# Altium integrated library Analog Devices RF IF Timing ICs and Clocks.IntLib: 168 symbols (part 1 of 18)
Pins are listed as number, name and electrical type; pins without a type are passive.

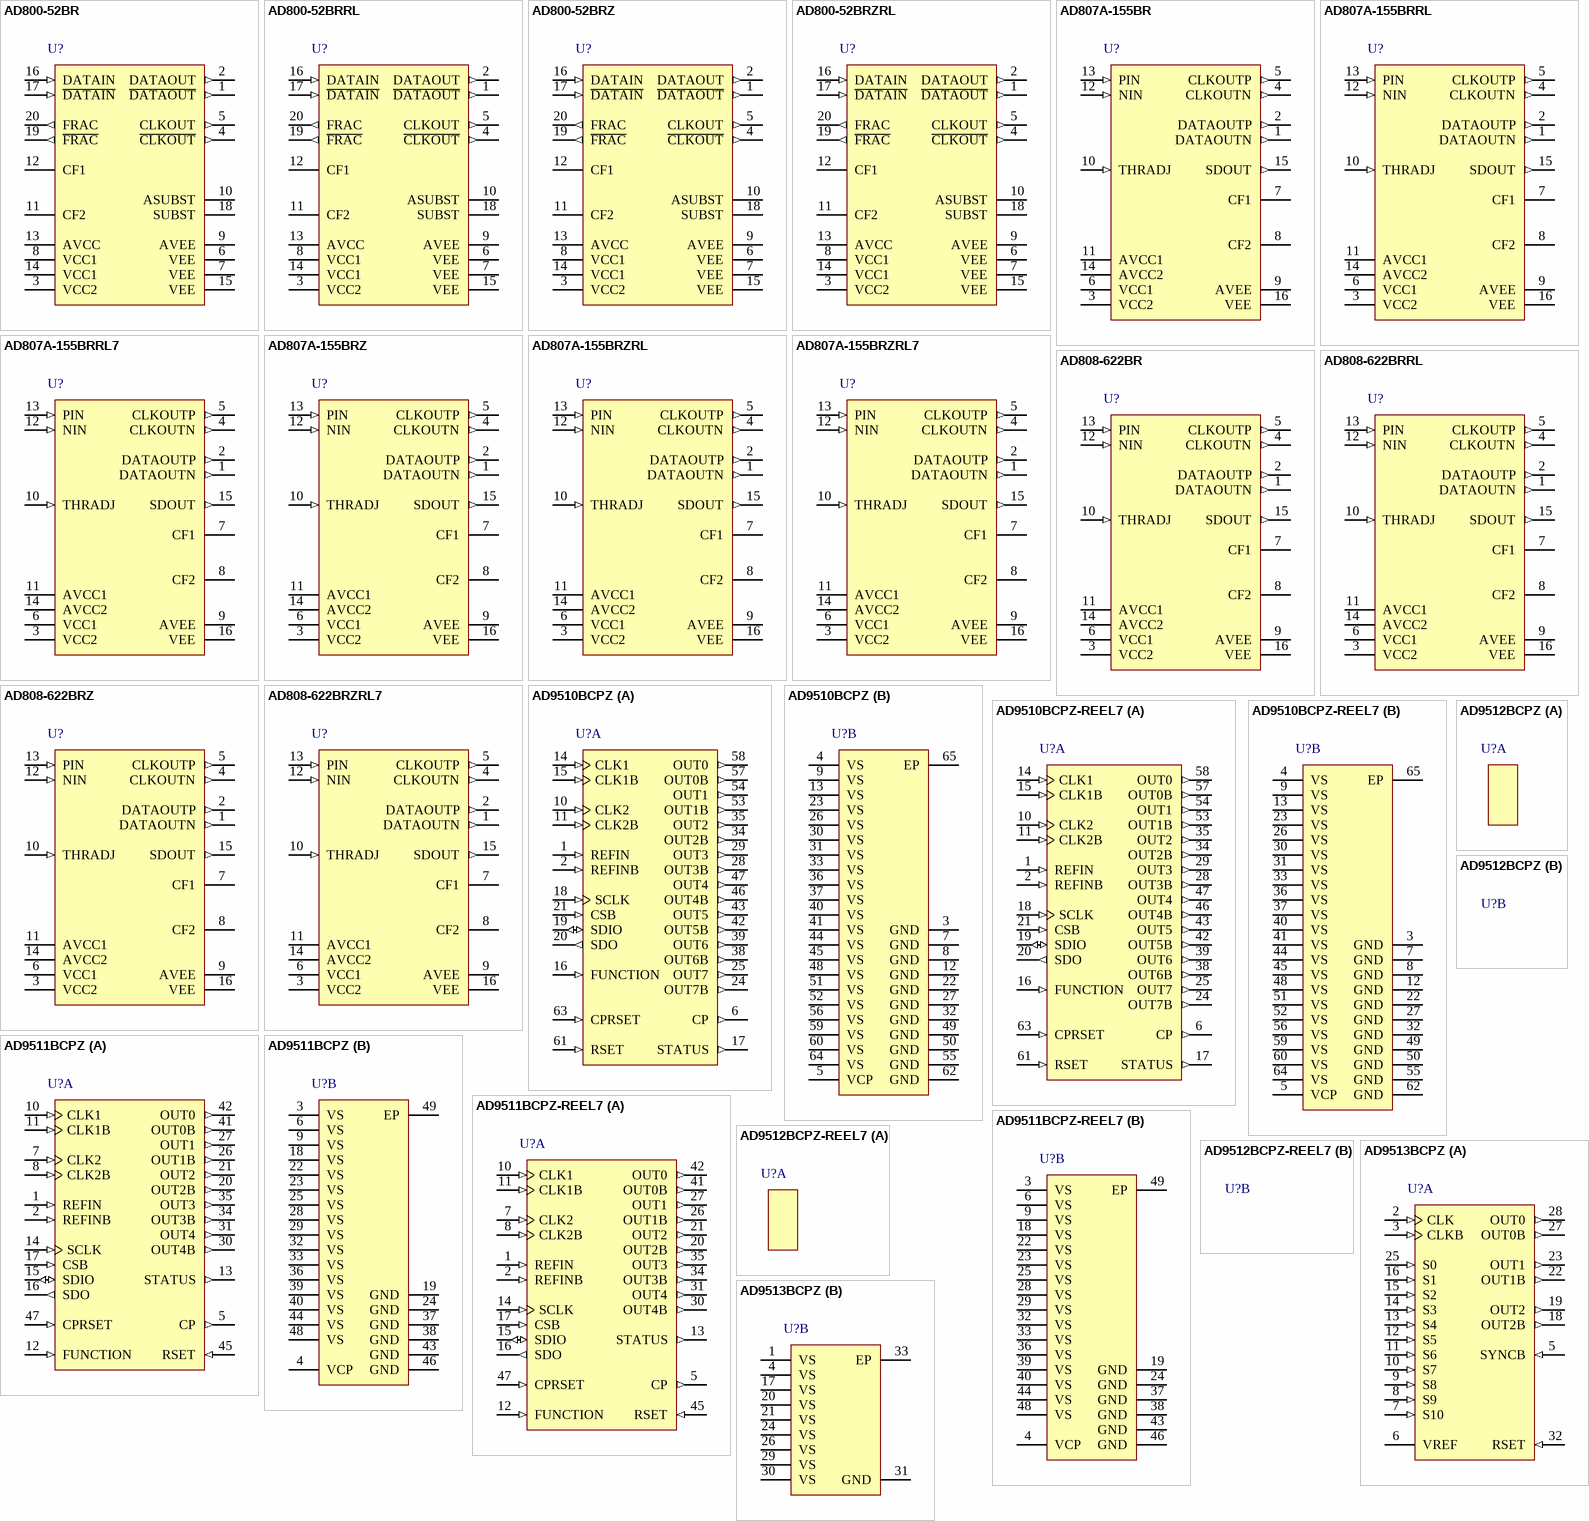
[diagram p0: symbols AD800-52BR to AD9513BCPZ]

## AD800-52BR
designator U?
Clock Recovery and Data Retiming Phase-Locked Loop, 0.156 Gb/s Data Rate, RW-20, 37 Tube; Voltage Supply (V): 5.5; Data Rate (Gb/s): 0.156; Input Sensitivity (mVp-p): 80; Jitter Tolerance (Ulpp): .9 UI @ 65 kHz; DatasheetVersion: Rev. B; PackageVersion: 060706-A; PackageReference: RW-20; PackageDescription: 20-Lead Standard Small Outline Package[SOIC_W]; Code_JEDEC: MS-013-AC; ComponentLink1Description: Manufacturer URL; ComponentLink1URL: www.analog.com; ComponentLink2Description: Datasheet; ComponentLink2URL: http://www.analog.com/static/imported-files/data_sheets/AD800_802.pdf; ComponentLink3Description: Package Specification; ComponentLink3URL: http://www.analog.com/static/imported-files/packages/233848RW_20.pdf
footprint ADI-RW-20_N (SOIC, 20-Leads, Body 12.8x7.5mm, Pitch 1.27mm, IPC Medium Density)
footprint ADI-RW-20_L (SOIC, 20-Leads, Body 12.8x7.5mm, Pitch 1.27mm, IPC High Density)
footprint ADI-RW-20_M (SOIC, 20-Leads, Body 12.8x7.5mm, Pitch 1.27mm, IPC Low Density)
pins: 1 ~{DATAOUT} (out) "Differential Retimed Data Output", 2 DATAOUT (out) "Differential Retimed Data Output", 3 VCC2 (power) "Digital Ground", 4 ~{CLKOUT} (out) "Differential Recovered Clock Output", 5 CLKOUT (out) "Differential Recovered Clock Output", 6 VEE (power) "Digital VEE", 7 VEE (power) "Digital VEE", 8 VCC1 (power) "Digital Ground", 9 AVEE (power) "Analog VEE", 10 ASUBST "Analog Substrate", 11 CF2 "Loop Damping Capacitor Input", 12 CF1 "Loop Damping Capacitor Input", 13 AVCC (power) "Analog Ground", 14 VCC1 (power) "Digital Ground", 15 VEE (power) "Digital VEE", 16 DATAIN (in) "Differential Data Input", 17 ~{DATAIN} (in) "Differential Data Input", 18 SUBST "Digital Substrate", 19 ~{FRAC} (out) "Differential Frequency Acquisition Indicator Output", 20 FRAC (out) "Differential Frequency Acquisition Indicator Output"

## AD800-52BRRL
designator U?
Clock Recovery and Data Retiming Phase-Locked Loop, 0.156 Gb/s Data Rate, RW-20, 1000 Reel; Voltage Supply (V): 5.5; Data Rate (Gb/s): 0.156; Input Sensitivity (mVp-p): 80; Jitter Tolerance (Ulpp): .9 UI @ 65 kHz; DatasheetVersion: Rev. B; PackageVersion: 060706-A; PackageReference: RW-20; PackageDescription: 20-Lead Standard Small Outline Package[SOIC_W]; Code_JEDEC: MS-013-AC; ComponentLink1Description: Manufacturer URL; ComponentLink1URL: www.analog.com; ComponentLink2Description: Datasheet; ComponentLink2URL: http://www.analog.com/static/imported-files/data_sheets/AD800_802.pdf; ComponentLink3Description: Package Specification; ComponentLink3URL: http://www.analog.com/static/imported-files/packages/233848RW_20.pdf
footprint ADI-RW-20_N (SOIC, 20-Leads, Body 12.8x7.5mm, Pitch 1.27mm, IPC Medium Density)
footprint ADI-RW-20_L (SOIC, 20-Leads, Body 12.8x7.5mm, Pitch 1.27mm, IPC High Density)
footprint ADI-RW-20_M (SOIC, 20-Leads, Body 12.8x7.5mm, Pitch 1.27mm, IPC Low Density)
pins: 1 ~{DATAOUT} (out) "Differential Retimed Data Output", 2 DATAOUT (out) "Differential Retimed Data Output", 3 VCC2 (power) "Digital Ground", 4 ~{CLKOUT} (out) "Differential Recovered Clock Output", 5 CLKOUT (out) "Differential Recovered Clock Output", 6 VEE (power) "Digital VEE", 7 VEE (power) "Digital VEE", 8 VCC1 (power) "Digital Ground", 9 AVEE (power) "Analog VEE", 10 ASUBST "Analog Substrate", 11 CF2 "Loop Damping Capacitor Input", 12 CF1 "Loop Damping Capacitor Input", 13 AVCC (power) "Analog Ground", 14 VCC1 (power) "Digital Ground", 15 VEE (power) "Digital VEE", 16 DATAIN (in) "Differential Data Input", 17 ~{DATAIN} (in) "Differential Data Input", 18 SUBST "Digital Substrate", 19 ~{FRAC} (out) "Differential Frequency Acquisition Indicator Output", 20 FRAC (out) "Differential Frequency Acquisition Indicator Output"

## AD800-52BRZ
designator U?
Clock Recovery and Data Retiming Phase-Locked Loop, 0.156 Gb/s Data Rate, RW-20, 37 Tube; Voltage Supply (V): 5.5; Data Rate (Gb/s): 0.156; Input Sensitivity (mVp-p): 80; Jitter Tolerance (Ulpp): .9 UI @ 65 kHz; DatasheetVersion: Rev. B; PackageVersion: 060706-A; PackageReference: RW-20; PackageDescription: 20-Lead Standard Small Outline Package[SOIC_W]; Code_JEDEC: MS-013-AC; ComponentLink1Description: Manufacturer URL; ComponentLink1URL: www.analog.com; ComponentLink2Description: Datasheet; ComponentLink2URL: http://www.analog.com/static/imported-files/data_sheets/AD800_802.pdf; ComponentLink3Description: Package Specification; ComponentLink3URL: http://www.analog.com/static/imported-files/packages/233848RW_20.pdf
footprint ADI-RW-20_N (SOIC, 20-Leads, Body 12.8x7.5mm, Pitch 1.27mm, IPC Medium Density)
footprint ADI-RW-20_L (SOIC, 20-Leads, Body 12.8x7.5mm, Pitch 1.27mm, IPC High Density)
footprint ADI-RW-20_M (SOIC, 20-Leads, Body 12.8x7.5mm, Pitch 1.27mm, IPC Low Density)
pins: 1 ~{DATAOUT} (out) "Differential Retimed Data Output", 2 DATAOUT (out) "Differential Retimed Data Output", 3 VCC2 (power) "Digital Ground", 4 ~{CLKOUT} (out) "Differential Recovered Clock Output", 5 CLKOUT (out) "Differential Recovered Clock Output", 6 VEE (power) "Digital VEE", 7 VEE (power) "Digital VEE", 8 VCC1 (power) "Digital Ground", 9 AVEE (power) "Analog VEE", 10 ASUBST "Analog Substrate", 11 CF2 "Loop Damping Capacitor Input", 12 CF1 "Loop Damping Capacitor Input", 13 AVCC (power) "Analog Ground", 14 VCC1 (power) "Digital Ground", 15 VEE (power) "Digital VEE", 16 DATAIN (in) "Differential Data Input", 17 ~{DATAIN} (in) "Differential Data Input", 18 SUBST "Digital Substrate", 19 ~{FRAC} (out) "Differential Frequency Acquisition Indicator Output", 20 FRAC (out) "Differential Frequency Acquisition Indicator Output"

## AD800-52BRZRL
designator U?
Clock Recovery and Data Retiming Phase-Locked Loop, 0.156 Gb/s Data Rate, RW-20, 1000 Reel; Voltage Supply (V): 5.5; Data Rate (Gb/s): 0.156; Input Sensitivity (mVp-p): 80; Jitter Tolerance (Ulpp): .9 UI @ 65 kHz; DatasheetVersion: Rev. B; PackageVersion: 060706-A; PackageReference: RW-20; PackageDescription: 20-Lead Standard Small Outline Package[SOIC_W]; Code_JEDEC: MS-013-AC; ComponentLink1Description: Manufacturer URL; ComponentLink1URL: www.analog.com; ComponentLink2Description: Datasheet; ComponentLink2URL: http://www.analog.com/static/imported-files/data_sheets/AD800_802.pdf; ComponentLink3Description: Package Specification; ComponentLink3URL: http://www.analog.com/static/imported-files/packages/233848RW_20.pdf
footprint ADI-RW-20_N (SOIC, 20-Leads, Body 12.8x7.5mm, Pitch 1.27mm, IPC Medium Density)
footprint ADI-RW-20_L (SOIC, 20-Leads, Body 12.8x7.5mm, Pitch 1.27mm, IPC High Density)
footprint ADI-RW-20_M (SOIC, 20-Leads, Body 12.8x7.5mm, Pitch 1.27mm, IPC Low Density)
pins: 1 ~{DATAOUT} (out) "Differential Retimed Data Output", 2 DATAOUT (out) "Differential Retimed Data Output", 3 VCC2 (power) "Digital Ground", 4 ~{CLKOUT} (out) "Differential Recovered Clock Output", 5 CLKOUT (out) "Differential Recovered Clock Output", 6 VEE (power) "Digital VEE", 7 VEE (power) "Digital VEE", 8 VCC1 (power) "Digital Ground", 9 AVEE (power) "Analog VEE", 10 ASUBST "Analog Substrate", 11 CF2 "Loop Damping Capacitor Input", 12 CF1 "Loop Damping Capacitor Input", 13 AVCC (power) "Analog Ground", 14 VCC1 (power) "Digital Ground", 15 VEE (power) "Digital VEE", 16 DATAIN (in) "Differential Data Input", 17 ~{DATAIN} (in) "Differential Data Input", 18 SUBST "Digital Substrate", 19 ~{FRAC} (out) "Differential Frequency Acquisition Indicator Output", 20 FRAC (out) "Differential Frequency Acquisition Indicator Output"

## AD807A-155BR
designator U?
Fiber Optic Receiver with Quantizer and Clock Recovery and Data Retiming, 0.155 Gb/s Data Rate, R-16, 48 Tube; Voltage Supply (V): 5; Data Rate (Gb/s): 0.155; Input Sensitivity (mVp-p): 2; Jitter Tolerance (Ulpp): 1.0 @ 65 kHz; Jitter Transfer: 92 kHz; Rate: Single; DatasheetVersion: Rev. B; PackageVersion: 060606-A; PackageReference: R-16; PackageDescription: 16-Lead Standard Small Outline Package [SOIC_N]; Jitter Gen (mUI rms): 5; Code_JEDEC: MS-012-AC; ComponentLink1Description: Manufacturer URL; ComponentLink1URL: www.analog.com; ComponentLink2Description: Datasheet; ComponentLink2URL: http://www.analog.com/static/imported-files/data_sheets/AD807.pdf; ComponentLink3Description: Package Specification; ComponentLink3URL: http://www.analog.com/static/imported-files/packages/PKG_PDF/SOIC_Narrow%20(R)/R_16.pdf
footprint ADI-R-16_N (SOIC, 16-Leads, Body 9.9x3.9mm, Pitch 1.27mm, IPC Medium Density)
footprint ADI-R-16_L (SOIC, 16-Leads, Body 9.9x3.9mm, Pitch 1.27mm, IPC High Density)
footprint ADI-R-16_M (SOIC, 16-Leads, Body 9.9x3.9mm, Pitch 1.27mm, IPC Low Density)
pins: 1 DATAOUTN (out) "Differential Retimed Data Output", 2 DATAOUTP (out) "Differential Retimed Data Output", 3 VCC2 (power) "Digital VCC for ECL Outputs", 4 CLKOUTN (out) "Differential Recovered Clock Output", 5 CLKOUTP (out) "Differential Recovered Clock Output", 6 VCC1 (power) "Digital VCC for Internal Logic", 7 CF1 "Loop Damping Capacitor", 8 CF2 "Loop Damping Capacitor", 9 AVEE (power) "Analog VEE", 10 THRADJ (in) "Level Detect Threshold Adjust", 11 AVCC1 (power) "Analog VCC for PLL", 12 NIN (in) "Quantizer Differential Input", 13 PIN (in) "Quantizer Differential Input", 14 AVCC2 (power) "Analog VCC for Quantizer", 15 SDOUT (out) "Signal Detect Output", 16 VEE (power) "Digital VEE for Internal Logic"

## AD807A-155BRRL
designator U?
Fiber Optic Receiver with Quantizer and Clock Recovery and Data Retiming, 0.155 Gb/s Data Rate, R-16, 2500 Reel; Voltage Supply (V): 5; Data Rate (Gb/s): 0.155; Input Sensitivity (mVp-p): 2; Jitter Tolerance (Ulpp): 1.0 @ 65 kHz; Jitter Transfer: 92 kHz; Rate: Single; DatasheetVersion: Rev. B; PackageVersion: 060606-A; PackageReference: R-16; PackageDescription: 16-Lead Standard Small Outline Package [SOIC_N]; Jitter Gen (mUI rms): 5; Code_JEDEC: MS-012-AC; ComponentLink1Description: Manufacturer URL; ComponentLink1URL: www.analog.com; ComponentLink2Description: Datasheet; ComponentLink2URL: http://www.analog.com/static/imported-files/data_sheets/AD807.pdf; ComponentLink3Description: Package Specification; ComponentLink3URL: http://www.analog.com/static/imported-files/packages/PKG_PDF/SOIC_Narrow%20(R)/R_16.pdf
footprint ADI-R-16_N (SOIC, 16-Leads, Body 9.9x3.9mm, Pitch 1.27mm, IPC Medium Density)
footprint ADI-R-16_L (SOIC, 16-Leads, Body 9.9x3.9mm, Pitch 1.27mm, IPC High Density)
footprint ADI-R-16_M (SOIC, 16-Leads, Body 9.9x3.9mm, Pitch 1.27mm, IPC Low Density)
pins: 1 DATAOUTN (out) "Differential Retimed Data Output", 2 DATAOUTP (out) "Differential Retimed Data Output", 3 VCC2 (power) "Digital VCC for ECL Outputs", 4 CLKOUTN (out) "Differential Recovered Clock Output", 5 CLKOUTP (out) "Differential Recovered Clock Output", 6 VCC1 (power) "Digital VCC for Internal Logic", 7 CF1 "Loop Damping Capacitor", 8 CF2 "Loop Damping Capacitor", 9 AVEE (power) "Analog VEE", 10 THRADJ (in) "Level Detect Threshold Adjust", 11 AVCC1 (power) "Analog VCC for PLL", 12 NIN (in) "Quantizer Differential Input", 13 PIN (in) "Quantizer Differential Input", 14 AVCC2 (power) "Analog VCC for Quantizer", 15 SDOUT (out) "Signal Detect Output", 16 VEE (power) "Digital VEE for Internal Logic"

## AD807A-155BRRL7
designator U?
Fiber Optic Receiver with Quantizer and Clock Recovery and Data Retiming, 0.155 Gb/s Data Rate, R-16, 1000 Reel; Voltage Supply (V): 5; Data Rate (Gb/s): 0.155; Input Sensitivity (mVp-p): 2; Jitter Tolerance (Ulpp): 1.0 @ 65 kHz; Jitter Transfer: 92 kHz; Rate: Single; DatasheetVersion: Rev. B; PackageVersion: 060606-A; PackageReference: R-16; PackageDescription: 16-Lead Standard Small Outline Package [SOIC_N]; Jitter Gen (mUI rms): 5; Code_JEDEC: MS-012-AC; ComponentLink1Description: Manufacturer URL; ComponentLink1URL: www.analog.com; ComponentLink2Description: Datasheet; ComponentLink2URL: http://www.analog.com/static/imported-files/data_sheets/AD807.pdf; ComponentLink3Description: Package Specification; ComponentLink3URL: http://www.analog.com/static/imported-files/packages/PKG_PDF/SOIC_Narrow%20(R)/R_16.pdf
footprint ADI-R-16_N (SOIC, 16-Leads, Body 9.9x3.9mm, Pitch 1.27mm, IPC Medium Density)
footprint ADI-R-16_L (SOIC, 16-Leads, Body 9.9x3.9mm, Pitch 1.27mm, IPC High Density)
footprint ADI-R-16_M (SOIC, 16-Leads, Body 9.9x3.9mm, Pitch 1.27mm, IPC Low Density)
pins: 1 DATAOUTN (out) "Differential Retimed Data Output", 2 DATAOUTP (out) "Differential Retimed Data Output", 3 VCC2 (power) "Digital VCC for ECL Outputs", 4 CLKOUTN (out) "Differential Recovered Clock Output", 5 CLKOUTP (out) "Differential Recovered Clock Output", 6 VCC1 (power) "Digital VCC for Internal Logic", 7 CF1 "Loop Damping Capacitor", 8 CF2 "Loop Damping Capacitor", 9 AVEE (power) "Analog VEE", 10 THRADJ (in) "Level Detect Threshold Adjust", 11 AVCC1 (power) "Analog VCC for PLL", 12 NIN (in) "Quantizer Differential Input", 13 PIN (in) "Quantizer Differential Input", 14 AVCC2 (power) "Analog VCC for Quantizer", 15 SDOUT (out) "Signal Detect Output", 16 VEE (power) "Digital VEE for Internal Logic"

## AD807A-155BRZ
designator U?
Fiber Optic Receiver with Quantizer and Clock Recovery and Data Retiming, 0.155 Gb/s Data Rate, R-16, 48 Tube; Voltage Supply (V): 5; Data Rate (Gb/s): 0.155; Input Sensitivity (mVp-p): 2; Jitter Tolerance (Ulpp): 1.0 @ 65 kHz; Jitter Transfer: 92 kHz; Rate: Single; DatasheetVersion: Rev. B; PackageVersion: 060606-A; PackageReference: R-16; PackageDescription: 16-Lead Standard Small Outline Package [SOIC_N]; Jitter Gen (mUI rms): 5; Code_JEDEC: MS-012-AC; ComponentLink1Description: Manufacturer URL; ComponentLink1URL: www.analog.com; ComponentLink2Description: Datasheet; ComponentLink2URL: http://www.analog.com/static/imported-files/data_sheets/AD807.pdf; ComponentLink3Description: Package Specification; ComponentLink3URL: http://www.analog.com/static/imported-files/packages/PKG_PDF/SOIC_Narrow%20(R)/R_16.pdf
footprint ADI-R-16_N (SOIC, 16-Leads, Body 9.9x3.9mm, Pitch 1.27mm, IPC Medium Density)
footprint ADI-R-16_L (SOIC, 16-Leads, Body 9.9x3.9mm, Pitch 1.27mm, IPC High Density)
footprint ADI-R-16_M (SOIC, 16-Leads, Body 9.9x3.9mm, Pitch 1.27mm, IPC Low Density)
pins: 1 DATAOUTN (out) "Differential Retimed Data Output", 2 DATAOUTP (out) "Differential Retimed Data Output", 3 VCC2 (power) "Digital VCC for ECL Outputs", 4 CLKOUTN (out) "Differential Recovered Clock Output", 5 CLKOUTP (out) "Differential Recovered Clock Output", 6 VCC1 (power) "Digital VCC for Internal Logic", 7 CF1 "Loop Damping Capacitor", 8 CF2 "Loop Damping Capacitor", 9 AVEE (power) "Analog VEE", 10 THRADJ (in) "Level Detect Threshold Adjust", 11 AVCC1 (power) "Analog VCC for PLL", 12 NIN (in) "Quantizer Differential Input", 13 PIN (in) "Quantizer Differential Input", 14 AVCC2 (power) "Analog VCC for Quantizer", 15 SDOUT (out) "Signal Detect Output", 16 VEE (power) "Digital VEE for Internal Logic"

## AD807A-155BRZRL
designator U?
Fiber Optic Receiver with Quantizer and Clock Recovery and Data Retiming, 0.155 Gb/s Data Rate, R-16, 2500 Reel; Voltage Supply (V): 5; Data Rate (Gb/s): 0.155; Input Sensitivity (mVp-p): 2; Jitter Tolerance (Ulpp): 1.0 @ 65 kHz; Jitter Transfer: 92 kHz; Rate: Single; DatasheetVersion: Rev. B; PackageVersion: 060606-A; PackageReference: R-16; PackageDescription: 16-Lead Standard Small Outline Package [SOIC_N]; Jitter Gen (mUI rms): 5; Code_JEDEC: MS-012-AC; ComponentLink1Description: Manufacturer URL; ComponentLink1URL: www.analog.com; ComponentLink2Description: Datasheet; ComponentLink2URL: http://www.analog.com/static/imported-files/data_sheets/AD807.pdf; ComponentLink3Description: Package Specification; ComponentLink3URL: http://www.analog.com/static/imported-files/packages/PKG_PDF/SOIC_Narrow%20(R)/R_16.pdf
footprint ADI-R-16_N (SOIC, 16-Leads, Body 9.9x3.9mm, Pitch 1.27mm, IPC Medium Density)
footprint ADI-R-16_L (SOIC, 16-Leads, Body 9.9x3.9mm, Pitch 1.27mm, IPC High Density)
footprint ADI-R-16_M (SOIC, 16-Leads, Body 9.9x3.9mm, Pitch 1.27mm, IPC Low Density)
pins: 1 DATAOUTN (out) "Differential Retimed Data Output", 2 DATAOUTP (out) "Differential Retimed Data Output", 3 VCC2 (power) "Digital VCC for ECL Outputs", 4 CLKOUTN (out) "Differential Recovered Clock Output", 5 CLKOUTP (out) "Differential Recovered Clock Output", 6 VCC1 (power) "Digital VCC for Internal Logic", 7 CF1 "Loop Damping Capacitor", 8 CF2 "Loop Damping Capacitor", 9 AVEE (power) "Analog VEE", 10 THRADJ (in) "Level Detect Threshold Adjust", 11 AVCC1 (power) "Analog VCC for PLL", 12 NIN (in) "Quantizer Differential Input", 13 PIN (in) "Quantizer Differential Input", 14 AVCC2 (power) "Analog VCC for Quantizer", 15 SDOUT (out) "Signal Detect Output", 16 VEE (power) "Digital VEE for Internal Logic"

## AD807A-155BRZRL7
designator U?
Fiber Optic Receiver with Quantizer and Clock Recovery and Data Retiming, 0.155 Gb/s Data Rate, R-16, 1000 Reel; Voltage Supply (V): 5; Data Rate (Gb/s): 0.155; Input Sensitivity (mVp-p): 2; Jitter Tolerance (Ulpp): 1.0 @ 65 kHz; Jitter Transfer: 92 kHz; Rate: Single; DatasheetVersion: Rev. B; PackageVersion: 060606-A; PackageReference: R-16; PackageDescription: 16-Lead Standard Small Outline Package [SOIC_N]; Jitter Gen (mUI rms): 5; Code_JEDEC: MS-012-AC; ComponentLink1Description: Manufacturer URL; ComponentLink1URL: www.analog.com; ComponentLink2Description: Datasheet; ComponentLink2URL: http://www.analog.com/static/imported-files/data_sheets/AD807.pdf; ComponentLink3Description: Package Specification; ComponentLink3URL: http://www.analog.com/static/imported-files/packages/PKG_PDF/SOIC_Narrow%20(R)/R_16.pdf
footprint ADI-R-16_N (SOIC, 16-Leads, Body 9.9x3.9mm, Pitch 1.27mm, IPC Medium Density)
footprint ADI-R-16_L (SOIC, 16-Leads, Body 9.9x3.9mm, Pitch 1.27mm, IPC High Density)
footprint ADI-R-16_M (SOIC, 16-Leads, Body 9.9x3.9mm, Pitch 1.27mm, IPC Low Density)
pins: 1 DATAOUTN (out) "Differential Retimed Data Output", 2 DATAOUTP (out) "Differential Retimed Data Output", 3 VCC2 (power) "Digital VCC for ECL Outputs", 4 CLKOUTN (out) "Differential Recovered Clock Output", 5 CLKOUTP (out) "Differential Recovered Clock Output", 6 VCC1 (power) "Digital VCC for Internal Logic", 7 CF1 "Loop Damping Capacitor", 8 CF2 "Loop Damping Capacitor", 9 AVEE (power) "Analog VEE", 10 THRADJ (in) "Level Detect Threshold Adjust", 11 AVCC1 (power) "Analog VCC for PLL", 12 NIN (in) "Quantizer Differential Input", 13 PIN (in) "Quantizer Differential Input", 14 AVCC2 (power) "Analog VCC for Quantizer", 15 SDOUT (out) "Signal Detect Output", 16 VEE (power) "Digital VEE for Internal Logic"

## AD808-622BR
designator U?
Fiber Optic Receiver with Quantizer andClock Recovery and Data Retiming, 0.622 Gb/s Data Rate, R-16, 48 Tube; Voltage Supply (V): 5; Data Rate (Gb/s): 0.622; Input Sensitivity (mVp-p): 4; Jitter Tolerance (Ulpp): 0.6 @ 250 kHz; Jitter Transfer: 333 kHz; Jitter Gen (mUI rms): 7; Rate: Single; DatasheetVersion: Rev. 0; PackageVersion: 060606-A; PackageReference: R-16; PackageDescription: 16-Lead Standard Small Outline Package [SOIC_N]; Code_JEDEC: MS-012-AC; ComponentLink1Description: Manufacturer URL; ComponentLink1URL: www.analog.com; ComponentLink2Description: Datasheet; ComponentLink2URL: http://www.analog.com/static/imported-files/data_sheets/AD808.pdf; ComponentLink3Description: Package Specification; ComponentLink3URL: http://www.analog.com/static/imported-files/packages/PKG_PDF/SOIC_Narrow%20(R)/R_16.pdf
footprint ADI-R-16_N (SOIC, 16-Leads, Body 9.9x3.9mm, Pitch 1.27mm, IPC Medium Density)
footprint ADI-R-16_L (SOIC, 16-Leads, Body 9.9x3.9mm, Pitch 1.27mm, IPC High Density)
footprint ADI-R-16_M (SOIC, 16-Leads, Body 9.9x3.9mm, Pitch 1.27mm, IPC Low Density)
pins: 1 DATAOUTN (out) "Differential Retimed Data Output", 2 DATAOUTP (out) "Differential Retimed Data Output", 3 VCC2 (power) "Digital VCC for ECL Outputs", 4 CLKOUTN (out) "Differential Recovered Clock Output", 5 CLKOUTP (out) "Differential Recovered Clock Output", 6 VCC1 (power) "Digital VCC for Internal Logic", 7 CF1 "Loop Damping Capacitor", 8 CF2 "Loop Damping Capacitor", 9 AVEE (power) "Analog VEE", 10 THRADJ (in) "Level Detect Threshold Adjust", 11 AVCC1 (power) "Analog VCC for PLL", 12 NIN (in) "Quantizer Differential Input", 13 PIN (in) "Quantizer Differential Input", 14 AVCC2 (power) "Analog VCC for Quantizer", 15 SDOUT (out) "Signal Detect Output", 16 VEE (power) "Digital VEE for Internal Logic"

## AD808-622BRRL
designator U?
Fiber Optic Receiver with Quantizer and Clock Recovery and Data Retiming, 0.622 Gb/s Data Rate, R-16, 2500 Reel; Voltage Supply (V): 5; Data Rate (Gb/s): 0.622; Input Sensitivity (mVp-p): 4; Jitter Tolerance (Ulpp): 0.6 @ 250 kHz; Jitter Transfer: 333 kHz; Jitter Gen (mUI rms): 7; Rate: Single; DatasheetVersion: Rev. 0; PackageVersion: 060606-A; PackageReference: R-16; PackageDescription: 16-Lead Standard Small Outline Package [SOIC_N]; Code_JEDEC: MS-012-AC; ComponentLink1Description: Manufacturer URL; ComponentLink1URL: www.analog.com; ComponentLink2Description: Datasheet; ComponentLink2URL: http://www.analog.com/static/imported-files/data_sheets/AD808.pdf; ComponentLink3Description: Package Specification; ComponentLink3URL: http://www.analog.com/static/imported-files/packages/PKG_PDF/SOIC_Narrow%20(R)/R_16.pdf
footprint ADI-R-16_N (SOIC, 16-Leads, Body 9.9x3.9mm, Pitch 1.27mm, IPC Medium Density)
footprint ADI-R-16_L (SOIC, 16-Leads, Body 9.9x3.9mm, Pitch 1.27mm, IPC High Density)
footprint ADI-R-16_M (SOIC, 16-Leads, Body 9.9x3.9mm, Pitch 1.27mm, IPC Low Density)
pins: 1 DATAOUTN (out) "Differential Retimed Data Output", 2 DATAOUTP (out) "Differential Retimed Data Output", 3 VCC2 (power) "Digital VCC for ECL Outputs", 4 CLKOUTN (out) "Differential Recovered Clock Output", 5 CLKOUTP (out) "Differential Recovered Clock Output", 6 VCC1 (power) "Digital VCC for Internal Logic", 7 CF1 "Loop Damping Capacitor", 8 CF2 "Loop Damping Capacitor", 9 AVEE (power) "Analog VEE", 10 THRADJ (in) "Level Detect Threshold Adjust", 11 AVCC1 (power) "Analog VCC for PLL", 12 NIN (in) "Quantizer Differential Input", 13 PIN (in) "Quantizer Differential Input", 14 AVCC2 (power) "Analog VCC for Quantizer", 15 SDOUT (out) "Signal Detect Output", 16 VEE (power) "Digital VEE for Internal Logic"

## AD808-622BRZ
designator U?
Fiber Optic Receiver with Quantizer and Clock Recovery and Data Retiming, 0.622 Gb/s Data Rate, R-16, 48 Tube; Voltage Supply (V): 5; Data Rate (Gb/s): 0.622; Input Sensitivity (mVp-p): 4; Jitter Tolerance (Ulpp): 0.6 @ 250 kHz; Jitter Transfer: 333 kHz; Jitter Gen (mUI rms): 7; Rate: Single; DatasheetVersion: Rev. 0; PackageVersion: 060606-A; PackageReference: R-16; PackageDescription: 16-Lead Standard Small Outline Package [SOIC_N]; Code_JEDEC: MS-012-AC; ComponentLink1Description: Manufacturer URL; ComponentLink1URL: www.analog.com; ComponentLink2Description: Datasheet; ComponentLink2URL: http://www.analog.com/static/imported-files/data_sheets/AD808.pdf; ComponentLink3Description: Package Specification; ComponentLink3URL: http://www.analog.com/static/imported-files/packages/PKG_PDF/SOIC_Narrow%20(R)/R_16.pdf
footprint ADI-R-16_N (SOIC, 16-Leads, Body 9.9x3.9mm, Pitch 1.27mm, IPC Medium Density)
footprint ADI-R-16_L (SOIC, 16-Leads, Body 9.9x3.9mm, Pitch 1.27mm, IPC High Density)
footprint ADI-R-16_M (SOIC, 16-Leads, Body 9.9x3.9mm, Pitch 1.27mm, IPC Low Density)
pins: 1 DATAOUTN (out) "Differential Retimed Data Output", 2 DATAOUTP (out) "Differential Retimed Data Output", 3 VCC2 (power) "Digital VCC for ECL Outputs", 4 CLKOUTN (out) "Differential Recovered Clock Output", 5 CLKOUTP (out) "Differential Recovered Clock Output", 6 VCC1 (power) "Digital VCC for Internal Logic", 7 CF1 "Loop Damping Capacitor", 8 CF2 "Loop Damping Capacitor", 9 AVEE (power) "Analog VEE", 10 THRADJ (in) "Level Detect Threshold Adjust", 11 AVCC1 (power) "Analog VCC for PLL", 12 NIN (in) "Quantizer Differential Input", 13 PIN (in) "Quantizer Differential Input", 14 AVCC2 (power) "Analog VCC for Quantizer", 15 SDOUT (out) "Signal Detect Output", 16 VEE (power) "Digital VEE for Internal Logic"

## AD808-622BRZRL7
designator U?
Fiber Optic Receiver with Quantizer and Clock Recovery and Data Retiming, 0.622 Gb/s Data Rate, R-16, 1000 Reel; Voltage Supply (V): 5; Data Rate (Gb/s): 0.622; Input Sensitivity (mVp-p): 4; Jitter Tolerance (Ulpp): 0.6 @ 250 kHz; Jitter Transfer: 333 kHz; Jitter Gen (mUI rms): 7; Rate: Single; DatasheetVersion: Rev. 0; PackageVersion: 060606-A; PackageReference: R-16; PackageDescription: 16-Lead Standard Small Outline Package [SOIC_N]; Code_JEDEC: MS-012-AC; ComponentLink1Description: Manufacturer URL; ComponentLink1URL: www.analog.com; ComponentLink2Description: Datasheet; ComponentLink2URL: http://www.analog.com/static/imported-files/data_sheets/AD808.pdf; ComponentLink3Description: Package Specification; ComponentLink3URL: http://www.analog.com/static/imported-files/packages/PKG_PDF/SOIC_Narrow%20(R)/R_16.pdf
footprint ADI-R-16_N (SOIC, 16-Leads, Body 9.9x3.9mm, Pitch 1.27mm, IPC Medium Density)
footprint ADI-R-16_L (SOIC, 16-Leads, Body 9.9x3.9mm, Pitch 1.27mm, IPC High Density)
footprint ADI-R-16_M (SOIC, 16-Leads, Body 9.9x3.9mm, Pitch 1.27mm, IPC Low Density)
pins: 1 DATAOUTN (out) "Differential Retimed Data Output", 2 DATAOUTP (out) "Differential Retimed Data Output", 3 VCC2 (power) "Digital VCC for ECL Outputs", 4 CLKOUTN (out) "Differential Recovered Clock Output", 5 CLKOUTP (out) "Differential Recovered Clock Output", 6 VCC1 (power) "Digital VCC for Internal Logic", 7 CF1 "Loop Damping Capacitor", 8 CF2 "Loop Damping Capacitor", 9 AVEE (power) "Analog VEE", 10 THRADJ (in) "Level Detect Threshold Adjust", 11 AVCC1 (power) "Analog VCC for PLL", 12 NIN (in) "Quantizer Differential Input", 13 PIN (in) "Quantizer Differential Input", 14 AVCC2 (power) "Analog VCC for Quantizer", 15 SDOUT (out) "Signal Detect Output", 16 VEE (power) "Digital VEE for Internal Logic"

## AD9510BCPZ
designator U?
1.2 GHz Clock Distribution IC, PLL Core, Dividers, Delay Adjust, Eight Outputs, 1200 MHz Max f-out, CP-64-1, Pb-Free, 260 Tray; Product Description: Multi-Output Clock Generator; +Supply Voltage (V): 3.3; Inputs: 1; Outputs: 8; On-Chip VCO or DCO: No; Max f-out (MHz): 1200; Output Logic: CMOS; LVDS; LVPECL; DatasheetVersion: Rev. A; PackageVersion: 063006-B; PackageReference: CP-64-1; PackageDescription: 64-Lead Lead Frame Chip Scale Package [LFCSP_VQ]; Dividers: 8; Code_JEDEC: MO-220-VMMD-4; ComponentLink1Description: Manufacturer URL; ComponentLink1URL: www.analog.com; ComponentLink2Description: Datasheet; ComponentLink2URL: http://www.analog.com/static/imported-files/data_sheets/AD9510.pdf; ComponentLink3Description: Package Specification; ComponentLink3URL: http://www.analog.com/static/imported-files/packages/PKG_PDF/LFCSP(CP)/CP-64/CP_64_1.pdf
footprint ADI-CP-64-1_N (QFN, 64-Leads, Body 9x9mm, Pitch 0.5mm, Thermal Pad 4.7x4.7mm, IPC Medium Density)
footprint ADI-CP-64-1_L (QFN, 64-Leads, Body 9x9mm, Pitch 0.5mm, Thermal Pad 4.7x4.7mm, IPC High Density)
footprint ADI-CP-64-1_M (QFN, 64-Leads, Body 9x9mm, Pitch 0.5mm, Thermal Pad 4.7x4.7mm, IPC Low Density)
part A pins: 1 REFIN (in) "PLL Reference Input.", 2 REFINB (in) "Complementary PLL Reference Input.", 6 CP (out) "Charge Pump Output.", 10 CLK2 (in) "Clock Input Used to Connect External VCO/VCXO to Feedback Divider, N. CLK2 also drives the distribution section of the chip and may be used as a generic clock input when PLL is not used.", 11 CLK2B (in) "Complementary Clock Input Used in Conjunction with CLK2.", 14 CLK1 (in) "Clock Input that Drives Distribution Section of the Chip.", 15 CLK1B (in) "Complementary Clock Input Used in Conjunction with CLK1.", 16 FUNCTION (in) "Multipurpose Input May Be Programmed as a Reset (RESETB), Sync (SYNCB), or Power-Down (PDB) Pin.This pin is internally pulled down by a 30 K ohm resistor. [see datasheet]", 17 STATUS (out) "Output Used to Monitor PLL Status and Sync Status", 18 SCLK (in) "Serial Data Clock", 19 SDIO (io) "Serial Data I/O.", 20 SDO (out) "Serial Data Output.", 21 CSB (in) "Serial Port Chip Select", 24 OUT7B (out) "Complementary LVDS/Inverted CMOS Output.", 25 OUT7 (out) "LVDS/CMOS Output.", 28 OUT3B (out) "Complementary LVPECL Output.", 29 OUT3 (out) "LVPECL Output.", 34 OUT2B (out) "Complementary LVPECL Output.", 35 OUT2 (out) "LVPECL Output", 38 OUT6B (out) "Complementary LVDS/Inverted CMOS Output. OUT6 includes a delay block.", 39 OUT6 (out) "LVDS/CMOS Output. OUT6 includes a delay block.", 42 OUT5B (out) "Output", 43 OUT5 (out) "LVDS/CMOS Output. OUT5 includes a delay block.", 46 OUT4B (out) "Complementary LVDS/Inverted CMOS Output.", 47 OUT4 (out) "LVDS/CMOS Output.", 53 OUT1B (out) "Complementary LVPECL Output.", 54 OUT1 (out) "LVPECL Output.", 57 OUT0B (out) "Complementary LVPECL Output.", 58 OUT0 (out) "LVPECL Output.", 61 RSET (in) "Current Set Resistor to Ground. Nominal value = 4.12 K ohm.", 63 CPRSET (in) "Charge Pump Current Set Resistor to Ground. Nominal value = 5.1 K ohm."
part B pins: 3 GND (power) "Ground.", 4 VS (power) "Power Supply (3.3 V) VS.", 5 VCP (power) "Charge Pump Power Supply VCPS. It should be greater than or equal to VS. VCPS may be set as high as 5.5 V  for VCOs requiring extended tuning range.", 7 GND (power) "Ground.", 8 GND (power) "Ground.", 9 VS (power) "Power Supply (3.3 V) V", 12 GND (power) "Ground.", 13 VS (power) "Power Supply (3.3 V) V", 22 GND (power) "Ground.", 23 VS (power) "Power Supply (3.3 V) V", 26 VS (power) "Power Supply (3.3 V) V", 27 GND (power) "Ground.", 30 VS (power) "Power Supply (3.3 V) V", 31 VS (power) "Power Supply (3.3 V) V", 32 GND (power) "Ground.", 33 VS (power) "Power Supply (3.3 V) V", 36 VS (power) "Power Supply (3.3 V) V", 37 VS (power) "Power Supply (3.3 V) V", 40 VS (power) "Power Supply (3.3 V) V", 41 VS (power) "Power Supply (3.3 V) V", 44 VS (power) "Power Supply (3.3 V) V", 45 VS (power) "Power Supply (3.3 V) V", 48 VS (power) "Power Supply (3.3 V) V", 49 GND (power) "Ground.", 50 GND (power) "Ground.", 51 VS (power) "Power Supply (3.3 V) V", 52 VS (power) "Power Supply (3.3 V) V", 55 GND (power) "Ground.", 56 VS (power) "Power Supply (3.3 V) V", 59 VS (power) "Power Supply (3.3 V) V", 60 VS (power) "Power Supply (3.3 V) V", 62 GND (power) "Ground.", 64 VS (power) "Power Supply (3.3 V) V", 65 EP (power) "Exposed Pad"

## AD9510BCPZ-REEL7
designator U?
1.2 GHz Clock Distribution IC, PLL Core, Dividers, Delay Adjust, Eight Outputs, 1200 MHz Max f-out, CP-64-1, Pb-Free, 750 Reel; Product Description: Multi-Output Clock Generator; +Supply Voltage (V): 3.3; Inputs: 1; Outputs: 8; On-Chip VCO or DCO: No; Max f-out (MHz): 1200; Output Logic: CMOS; LVDS; LVPECL; DatasheetVersion: Rev. A; PackageVersion: 063006-B; PackageReference: CP-64-1; PackageDescription: 64-Lead Lead Frame Chip Scale Package [LFCSP_VQ]; Dividers: 8; Code_JEDEC: MO-220-VMMD-4; ComponentLink1Description: Manufacturer URL; ComponentLink1URL: www.analog.com; ComponentLink2Description: Datasheet; ComponentLink2URL: http://www.analog.com/static/imported-files/data_sheets/AD9510.pdf; ComponentLink3Description: Package Specification; ComponentLink3URL: http://www.analog.com/static/imported-files/packages/PKG_PDF/LFCSP(CP)/CP-64/CP_64_1.pdf
footprint ADI-CP-64-1_N (QFN, 64-Leads, Body 9x9mm, Pitch 0.5mm, Thermal Pad 4.7x4.7mm, IPC Medium Density)
footprint ADI-CP-64-1_L (QFN, 64-Leads, Body 9x9mm, Pitch 0.5mm, Thermal Pad 4.7x4.7mm, IPC High Density)
footprint ADI-CP-64-1_M (QFN, 64-Leads, Body 9x9mm, Pitch 0.5mm, Thermal Pad 4.7x4.7mm, IPC Low Density)
part A pins: 1 REFIN (in) "PLL Reference Input.", 2 REFINB (in) "Complementary PLL Reference Input.", 6 CP (out) "Charge Pump Output.", 10 CLK2 (in) "Clock Input Used to Connect External VCO/VCXO to Feedback Divider, N. CLK2 also drives the distribution section of the chip and may be used as a generic clock input when PLL is not used.", 11 CLK2B (in) "Complementary Clock Input Used in Conjunction with CLK2.", 14 CLK1 (in) "Clock Input that Drives Distribution Section of the Chip.", 15 CLK1B (in) "Complementary Clock Input Used in Conjunction with CLK1.", 16 FUNCTION (in) "Multipurpose Input May Be Programmed as a Reset (RESETB), Sync (SYNCB), or Power-Down (PDB) Pin.This pin is internally pulled down by a 30 K ohm resistor. [see datasheet]", 17 STATUS (out) "Output Used to Monitor PLL Status and Sync Status", 18 SCLK (in) "Serial Data Clock", 19 SDIO (io) "Serial Data I/O.", 20 SDO (out) "Serial Data Output.", 21 CSB (in) "Serial Port Chip Select", 24 OUT7B (out) "Complementary LVDS/Inverted CMOS Output.", 25 OUT7 (out) "LVDS/CMOS Output.", 28 OUT3B (out) "Complementary LVPECL Output.", 29 OUT3 (out) "LVPECL Output.", 34 OUT2B (out) "Complementary LVPECL Output.", 35 OUT2 (out) "LVPECL Output", 38 OUT6B (out) "Complementary LVDS/Inverted CMOS Output. OUT6 includes a delay block.", 39 OUT6 (out) "LVDS/CMOS Output. OUT6 includes a delay block.", 42 OUT5B (out) "Output", 43 OUT5 (out) "LVDS/CMOS Output. OUT5 includes a delay block.", 46 OUT4B (out) "Complementary LVDS/Inverted CMOS Output.", 47 OUT4 (out) "LVDS/CMOS Output.", 53 OUT1B (out) "Complementary LVPECL Output.", 54 OUT1 (out) "LVPECL Output.", 57 OUT0B (out) "Complementary LVPECL Output.", 58 OUT0 (out) "LVPECL Output.", 61 RSET (in) "Current Set Resistor to Ground. Nominal value = 4.12 K ohm.", 63 CPRSET (in) "Charge Pump Current Set Resistor to Ground. Nominal value = 5.1 K ohm."
part B pins: 3 GND (power) "Ground.", 4 VS (power) "Power Supply (3.3 V) VS.", 5 VCP (power) "Charge Pump Power Supply VCPS. It should be greater than or equal to VS. VCPS may be set as high as 5.5 V  for VCOs requiring extended tuning range.", 7 GND (power) "Ground.", 8 GND (power) "Ground.", 9 VS (power) "Power Supply (3.3 V) V", 12 GND (power) "Ground.", 13 VS (power) "Power Supply (3.3 V) V", 22 GND (power) "Ground.", 23 VS (power) "Power Supply (3.3 V) V", 26 VS (power) "Power Supply (3.3 V) V", 27 GND (power) "Ground.", 30 VS (power) "Power Supply (3.3 V) V", 31 VS (power) "Power Supply (3.3 V) V", 32 GND (power) "Ground.", 33 VS (power) "Power Supply (3.3 V) V", 36 VS (power) "Power Supply (3.3 V) V", 37 VS (power) "Power Supply (3.3 V) V", 40 VS (power) "Power Supply (3.3 V) V", 41 VS (power) "Power Supply (3.3 V) V", 44 VS (power) "Power Supply (3.3 V) V", 45 VS (power) "Power Supply (3.3 V) V", 48 VS (power) "Power Supply (3.3 V) V", 49 GND (power) "Ground.", 50 GND (power) "Ground.", 51 VS (power) "Power Supply (3.3 V) V", 52 VS (power) "Power Supply (3.3 V) V", 55 GND (power) "Ground.", 56 VS (power) "Power Supply (3.3 V) V", 59 VS (power) "Power Supply (3.3 V) V", 60 VS (power) "Power Supply (3.3 V) V", 62 GND (power) "Ground.", 64 VS (power) "Power Supply (3.3 V) V", 65 EP (power) "Exposed Pad"

## AD9511BCPZ
designator U?
1.2 GHz Clock Distribution IC, PLL Core, Dividers, Delay Adjust, Five Outputs, 1200 MHz Max f-out, CP-48-1, Pb-Free, 260 Tray; Product Description: Multi-Output Clock Generator; +Supply Voltage (V): 3.3; Inputs: 1; Outputs: 5; On-Chip VCO or DCO: No; Max f-out (MHz): 1200; Output Logic: CMOS; LVDS; LVPECL; DatasheetVersion: Rev. A; PackageVersion: Jan-2005; PackageReference: CP-48-1; PackageDescription: 48-Lead Lead Frame Chip Scale Package [LFCSP_VQ]; Dividers: 5; Code_JEDEC: MO-220-VKKD-2; ComponentLink1Description: Manufacturer URL; ComponentLink1URL: www.analog.com; ComponentLink2Description: Datasheet; ComponentLink2URL: http://www.analog.com/static/imported-files/data_sheets/AD9511.pdf; ComponentLink3Description: Package Specification; ComponentLink3URL: http://www.analog.com/static/imported-files/packages/PKG_PDF/LFCSP(CP)/CP-48/CP_48_1.pdf
footprint ADI-CP-48-1_N (QFN, 48-Leads, Body 7x7mm, Pitch 0.5mm, Thermal Pad 5.1x5.1mm, IPC Medium Density)
footprint ADI-CP-48-1_L (QFN, 48-Leads, Body 7x7mm, Pitch 0.5mm, Thermal Pad 5.1x5.1mm, IPC High Density)
footprint ADI-CP-48-1_M (QFN, 48-Leads, Body 7x7mm, Pitch 0.5mm, Thermal Pad 5.1x5.1mm, IPC Low Density)
part A pins: 1 REFIN (in) "PLL Reference Input", 2 REFINB (in) "Complementary PLL Reference Input.", 5 CP (out) "Charge Pump Output.", 7 CLK2 (in) "Clock Input. Used to connect external VCO/VCXO to feedback divider, N. CLK2 also drives the  distribution section of the chip and may be used as a generic clock input when PLL is not used", 8 CLK2B (in) "Complementary Clock Input. Used in conjunction with CLK2", 10 CLK1 (in) "Clock Input. Drives distribution section of the chip.", 11 CLK1B (in) "Complementary Clock Input. Used in conjunction with CLK1", 12 FUNCTION (in) "Multipurpose Input. May be programmed as a reset (RESETB), sync (SYNCB), or power-down (PDB)pin.This pin is internally pulled down by a 30 K ohm resistor. [see datasheet]", 13 STATUS (out) "Output Used to Monitor PLL Status and Sync Status", 14 SCLK (in) "Serial Data Clock", 15 SDIO (io) "Serial Data I/O.", 16 SDO (out) "Serial Data Output.", 17 CSB (in) "Serial Port Chip Select", 20 OUT2B (out) "Complementary LVPECL Output", 21 OUT2 (out) "LVPECL Output", 26 OUT1B (out) "Complementary LVPECL Output.", 27 OUT1 (out) "LVPECL Output.", 30 OUT4B (out) "Complementary LVDS/Inverted CMOS Output. OUT4 includes a delay block.", 31 OUT4 (out) "LVDS/CMOS Output. OUT4 includes a delay block.", 34 OUT3B (out) "Complementary LVDS/Inverted CMOS Output.", 35 OUT3 (out) "LVDS/CMOS Output.", 41 OUT0B (out) "Complementary LVPECL Output.", 42 OUT0 (out) "LVPECL Output.", 45 RSET (in) "Current Set Resistor to Ground. Nominal value = 4.12 K ohm.", 47 CPRSET (in) "Charge Pump Current Set Resistor to Ground. Nominal value = 5.1 K ohm."
part B pins: 3 VS (power) "Power Supply (3.3 V)", 4 VCP (power) "Charge Pump Power Supply. It should be greater than or equal to VS.", 6 VS (power) "Power Supply (3.3 V)", 9 VS (power) "Power Supply (3.3 V).", 18 VS (power) "Power Supply (3.3 V)", 19 GND (power) "Ground.", 22 VS (power) "Power Supply (3.3 V).", 23 VS (power) "Power Supply (3.3 V).", 24 GND (power) "Ground.", 25 VS (power) "Power Supply (3.3 V).", 28 VS (power) "Power Supply (3.3 V).", 29 VS (power) "Power Supply (3.3 V).", 32 VS (power) "Power Supply (3.3 V).", 33 VS (power) "Power Supply (3.3 V).", 36 VS (power) "Power Supply (3.3 V).", 37 GND (power) "Ground.", 38 GND (power) "Ground.", 39 VS (power) "Power Supply (3.3 V).", 40 VS (power) "Power Supply (3.3 V).", 43 GND (power) "Ground.", 44 VS (power) "Power Supply (3.3 V).", 46 GND (power) "Ground.", 48 VS (power) "Power Supply (3.3 V).", 49 EP (power) "Exposed Pad"

## AD9511BCPZ-REEL7
designator U?
1.2 GHz Clock Distribution IC, PLL Core, Dividers, Delay Adjust, Five Outputs, 1200 MHz Max f-out, CP-48-1, Pb-Free, 750 Reel; Product Description: Multi-Output Clock Generator; +Supply Voltage (V): 3.3; Inputs: 1; Outputs: 5; On-Chip VCO or DCO: No; Max f-out (MHz): 1200; Output Logic: CMOS; LVDS; LVPECL; DatasheetVersion: Rev. A; PackageVersion: Jan-2005; PackageReference: CP-48-1; PackageDescription: 48-Lead Lead Frame Chip Scale Package [LFCSP_VQ]; Dividers: 5; Code_JEDEC: MO-220-VKKD-2; ComponentLink1Description: Manufacturer URL; ComponentLink1URL: www.analog.com; ComponentLink2Description: Datasheet; ComponentLink2URL: http://www.analog.com/static/imported-files/data_sheets/AD9511.pdf; ComponentLink3Description: Package Specification; ComponentLink3URL: http://www.analog.com/static/imported-files/packages/PKG_PDF/LFCSP(CP)/CP-48/CP_48_1.pdf
footprint ADI-CP-48-1_N (QFN, 48-Leads, Body 7x7mm, Pitch 0.5mm, Thermal Pad 5.1x5.1mm, IPC Medium Density)
footprint ADI-CP-48-1_L (QFN, 48-Leads, Body 7x7mm, Pitch 0.5mm, Thermal Pad 5.1x5.1mm, IPC High Density)
footprint ADI-CP-48-1_M (QFN, 48-Leads, Body 7x7mm, Pitch 0.5mm, Thermal Pad 5.1x5.1mm, IPC Low Density)
part A pins: 1 REFIN (in) "PLL Reference Input", 2 REFINB (in) "Complementary PLL Reference Input.", 5 CP (out) "Charge Pump Output.", 7 CLK2 (in) "Clock Input. Used to connect external VCO/VCXO to feedback divider, N. CLK2 also drives the  distribution section of the chip and may be used as a generic clock input when PLL is not used", 8 CLK2B (in) "Complementary Clock Input. Used in conjunction with CLK2", 10 CLK1 (in) "Clock Input. Drives distribution section of the chip.", 11 CLK1B (in) "Complementary Clock Input. Used in conjunction with CLK1", 12 FUNCTION (in) "Multipurpose Input. May be programmed as a reset (RESETB), sync (SYNCB), or power-down (PDB)pin.This pin is internally pulled down by a 30 K ohm resistor. [see datasheet]", 13 STATUS (out) "Output Used to Monitor PLL Status and Sync Status", 14 SCLK (in) "Serial Data Clock", 15 SDIO (io) "Serial Data I/O.", 16 SDO (out) "Serial Data Output.", 17 CSB (in) "Serial Port Chip Select", 20 OUT2B (out) "Complementary LVPECL Output", 21 OUT2 (out) "LVPECL Output", 26 OUT1B (out) "Complementary LVPECL Output.", 27 OUT1 (out) "LVPECL Output.", 30 OUT4B (out) "Complementary LVDS/Inverted CMOS Output. OUT4 includes a delay block.", 31 OUT4 (out) "LVDS/CMOS Output. OUT4 includes a delay block.", 34 OUT3B (out) "Complementary LVDS/Inverted CMOS Output.", 35 OUT3 (out) "LVDS/CMOS Output.", 41 OUT0B (out) "Complementary LVPECL Output.", 42 OUT0 (out) "LVPECL Output.", 45 RSET (in) "Current Set Resistor to Ground. Nominal value = 4.12 K ohm.", 47 CPRSET (in) "Charge Pump Current Set Resistor to Ground. Nominal value = 5.1 K ohm."
part B pins: 3 VS (power) "Power Supply (3.3 V)", 4 VCP (power) "Charge Pump Power Supply. It should be greater than or equal to VS.", 6 VS (power) "Power Supply (3.3 V)", 9 VS (power) "Power Supply (3.3 V).", 18 VS (power) "Power Supply (3.3 V)", 19 GND (power) "Ground.", 22 VS (power) "Power Supply (3.3 V).", 23 VS (power) "Power Supply (3.3 V).", 24 GND (power) "Ground.", 25 VS (power) "Power Supply (3.3 V).", 28 VS (power) "Power Supply (3.3 V).", 29 VS (power) "Power Supply (3.3 V).", 32 VS (power) "Power Supply (3.3 V).", 33 VS (power) "Power Supply (3.3 V).", 36 VS (power) "Power Supply (3.3 V).", 37 GND (power) "Ground.", 38 GND (power) "Ground.", 39 VS (power) "Power Supply (3.3 V).", 40 VS (power) "Power Supply (3.3 V).", 43 GND (power) "Ground.", 44 VS (power) "Power Supply (3.3 V).", 46 GND (power) "Ground.", 48 VS (power) "Power Supply (3.3 V).", 49 EP (power) "Exposed Pad"

## AD9512BCPZ
designator U?
1.2 GHz Clock Distribution IC, 1.6 GHz Inputs, Dividers, Delay Adjust, Five Outputs, 1200 MHz Max f-out, CP-48-1, Pb-Free, 260 Tray; Product Description: Clock Divider; +Supply Voltage (V): 3.3; Inputs: 1; Outputs: 5; On-Chip VCO or DCO: No; Max f-out (MHz): 1200; Output Logic: CMOS; LVDS; LVPECL; DatasheetVersion: Rev. A; PackageVersion: Jan-2005; PackageReference: CP-48-1; PackageDescription: 48-Lead Lead Frame Chip Scale Package [LFCSP_VQ]; Dividers: 5; Code_JEDEC: MO-220-VKKD-2; ComponentLink1Description: Manufacturer URL; ComponentLink1URL: www.analog.com; ComponentLink2Description: Datasheet; ComponentLink2URL: http://www.analog.com/static/imported-files/data_sheets/AD9512.pdf; ComponentLink3Description: Package Specification; ComponentLink3URL: http://www.analog.com/static/imported-files/packages/PKG_PDF/LFCSP(CP)/CP-48/CP_48_1.pdf
footprint ADI-CP-48-1_N (QFN, 48-Leads, Body 7x7mm, Pitch 0.5mm, Thermal Pad 5.1x5.1mm, IPC Medium Density)
footprint ADI-CP-48-1_L (QFN, 48-Leads, Body 7x7mm, Pitch 0.5mm, Thermal Pad 5.1x5.1mm, IPC High Density)
footprint ADI-CP-48-1_M (QFN, 48-Leads, Body 7x7mm, Pitch 0.5mm, Thermal Pad 5.1x5.1mm, IPC Low Density)
1 alternate drawing of the same symbol

## AD9512BCPZ-REEL7
designator U?
1.2 GHz Clock Distribution IC, 1.6 GHz Inputs, Dividers, Delay Adjust, Five Outputs, 1200 MHz Max f-out, CP-48-1, Pb-Free, 750 Reel; Product Description: Clock Divider; +Supply Voltage (V): 3.3; Inputs: 1; Outputs: 5; On-Chip VCO or DCO: No; Max f-out (MHz): 1200; Output Logic: CMOS; LVDS; LVPECL; DatasheetVersion: Rev. A; PackageVersion: Jan-2005; PackageReference: CP-48-1; PackageDescription: 48-Lead Lead Frame Chip Scale Package [LFCSP_VQ]; Dividers: 5; Code_JEDEC: MO-220-VKKD-2; ComponentLink1Description: Manufacturer URL; ComponentLink1URL: www.analog.com; ComponentLink2Description: Datasheet; ComponentLink2URL: http://www.analog.com/static/imported-files/data_sheets/AD9512.pdf; ComponentLink3Description: Package Specification; ComponentLink3URL: http://www.analog.com/static/imported-files/packages/PKG_PDF/LFCSP(CP)/CP-48/CP_48_1.pdf
footprint ADI-CP-48-1_N (QFN, 48-Leads, Body 7x7mm, Pitch 0.5mm, Thermal Pad 5.1x5.1mm, IPC Medium Density)
footprint ADI-CP-48-1_L (QFN, 48-Leads, Body 7x7mm, Pitch 0.5mm, Thermal Pad 5.1x5.1mm, IPC High Density)
footprint ADI-CP-48-1_M (QFN, 48-Leads, Body 7x7mm, Pitch 0.5mm, Thermal Pad 5.1x5.1mm, IPC Low Density)
1 alternate drawing of the same symbol

## AD9513BCPZ
designator U?
800 MHz Clock Distribution IC, Dividers, Delay Adjust, Three Outputs, 800 MHz Max f-out, CP-32-2, Pb-Free, 490 Tray; Product Description: Clock Divider; +Supply Voltage (V): 3.3; Inputs: 1; Outputs: 3; On-Chip VCO or DCO: No; Max f-out (MHz): 800; Output Logic: CMOS; LVDS; DatasheetVersion: Rev. 0; PackageVersion: Jan-2005; PackageReference: CP-32-2; PackageDescription: 32-Lead Lead Frame Chip Scale Package [LFCSP_VQ]; Dividers: 3; Code_JEDEC: MO-220-VHHD-2; ComponentLink1Description: Manufacturer URL; ComponentLink1URL: www.analog.com; ComponentLink2Description: Datasheet; ComponentLink2URL: http://www.analog.com/static/imported-files/data_sheets/AD9513.pdf; ComponentLink3Description: Package Specification; ComponentLink3URL: http://www.analog.com/static/imported-files/packages/414143737956480539664569CP_32_2.pdf
footprint ADI-CP-32-2_N (QFN, 32-Leads, Body 5x5mm, Pitch 0.5mm, Thermal Pad 3.1x3.1mm, IPC Medium Density)
footprint ADI-CP-32-2_L (QFN, 32-Leads, Body 5x5mm, Pitch 0.5mm, Thermal Pad 3.1x3.1mm, IPC High Density)
footprint ADI-CP-32-2_M (QFN, 32-Leads, Body 5x5mm, Pitch 0.5mm, Thermal Pad 3.1x3.1mm, IPC Low Density)
part A pins: 2 CLK (in) "Clock Input.", 3 CLKB (in) "Complementary Clock Input.", 5 SYNCB (in) "Used to Synchronize Outputs", 6 VREF (power) "Provides 2/3 VS for use as one of the four logic levels on S0 to S10", 7 S10 (in) "Setup Select Pins. These are 4-state logic. The logic levels are VS, GND, 1/3 VS, and 2/3 VS. The  VREF pin provides 2/3 VS. [see datasheet]", 8 S9 (in) "Setup Select Pins. These are 4-state logic. The logic levels are VS, GND, 1/3 VS, and 2/3 VS. The  VREF pin provides 2/3 VS. [see datasheet]", 9 S8 (in) "Setup Select Pins. These are 4-state logic. The logic levels are VS, GND, 1/3 VS, and 2/3 VS. The  VREF pin provides 2/3 VS. [see datasheet]", 10 S7 (in) "Setup Select Pins. These are 4-state logic. The logic levels are VS, GND, 1/3 VS, and 2/3 VS. The  VREF pin provides 2/3 VS. [see datasheet]", 11 S6 (in) "Setup Select Pins. These are 4-state logic. The logic levels are VS, GND, 1/3 VS, and 2/3 VS. The  VREF pin provides 2/3 VS. [see datasheet]", 12 S5 (in) "Setup Select Pins. These are 4-state logic. The logic levels are VS, GND, 1/3 VS, and 2/3 VS. The  VREF pin provides 2/3 VS. [see datasheet]", 13 S4 (in) "Setup Select Pins. These are 4-state logic. The logic levels are VS, GND, 1/3 VS, and 2/3 VS. The  VREF pin provides 2/3 VS. [see datasheet]", 14 S3 (in) "Setup Select Pins. These are 4-state logic. The logic levels are VS, GND, 1/3 VS, and 2/3 VS. The  VREF pin provides 2/3 VS. [see datasheet]", 15 S2 (in) "Setup Select Pins. These are 4-state logic. The logic levels are VS, GND, 1/3 VS, and 2/3 VS. The  VREF pin provides 2/3 VS. [see datasheet]", 16 S1 (in) "Setup Select Pins. These are 4-state logic. The logic levels are VS, GND, 1/3 VS, and 2/3 VS. The  VREF pin provides 2/3 VS. [see datasheet]", 18 OUT2B (out) "Complementary LVDS/Inverted CMOS Output.", 19 OUT2 (out) "LVDS/CMOS Output.", 22 OUT1B (out) "Complementary LVDS/Inverted CMOS Output. OUT6 includes a delay block.", 23 OUT1 (out) "LVDS/CMOS Output. OUT6 includes a delay block", 25 S0 (in) "Setup Select Pins. These are 4-state logic. The logic levels are VS, GND, 1/3 VS, and 2/3 VS. The  VREF pin provides 2/3 VS. [see datasheet]", 27 OUT0B (out) "Complementary LVDS/Inverted CMOS Output. OUT5 includes a delay block", 28 OUT0 (out) "LVDS/CMOS Output. OUT5 includes a delay block.", 32 RSET (in) "Current Set Resistor to Ground. Nominal value = 4.12 K ohm"
part B pins: 1 VS (power) "Power Supply (3.3 V)", 4 VS (power) "Power Supply (3.3 V)", 17 VS (power) "Power Supply (3.3 V)", 20 VS (power) "Power Supply (3.3 V)", 21 VS (power) "Power Supply (3.3 V)", 24 VS (power) "Power Supply (3.3 V)", 26 VS (power) "Power Supply (3.3 V)", 29 VS (power) "Power Supply (3.3 V)", 30 VS (power) "Power Supply (3.3 V)", 31 GND (power) "Ground. The exposed paddle on the back of the chip is also GND.", 33 EP (power) "Exposed Pad"

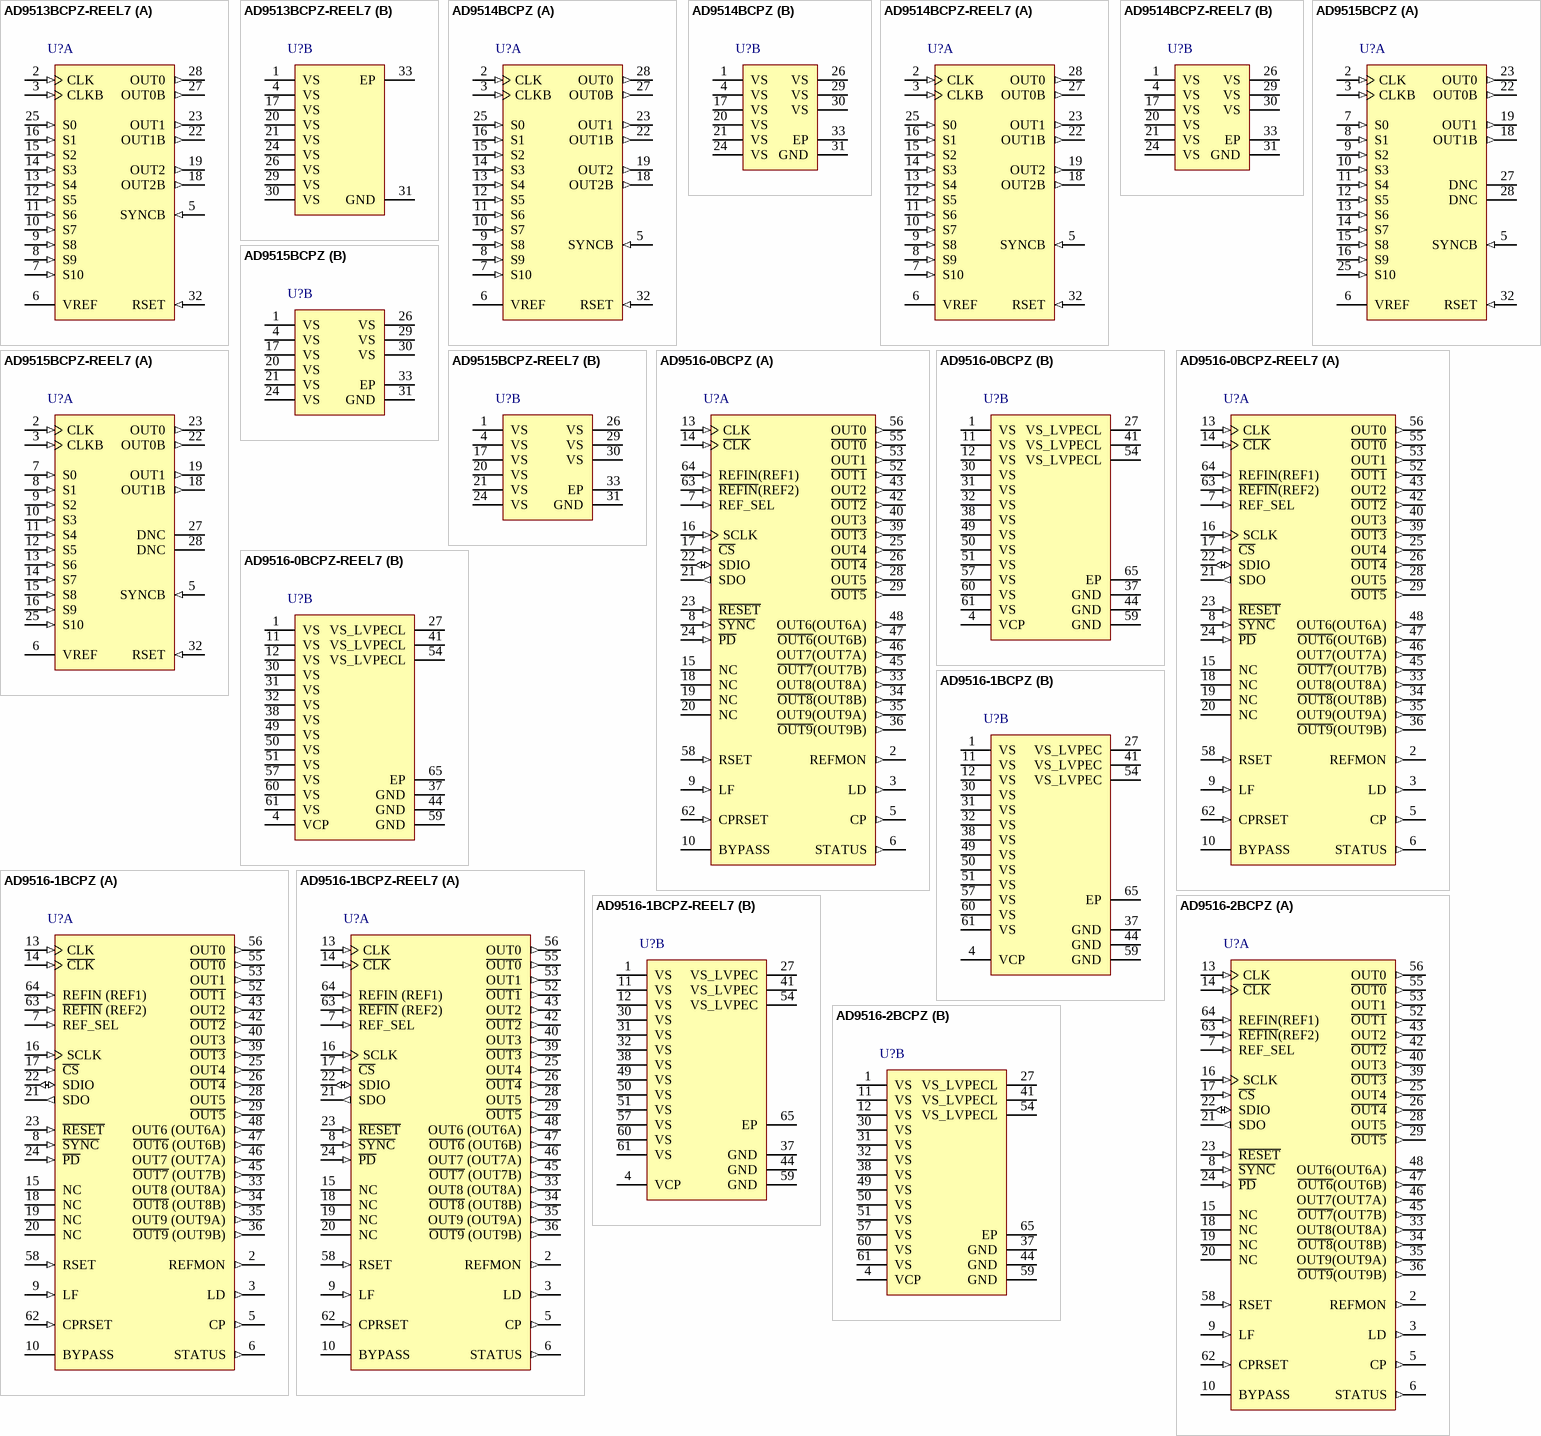
[diagram p1: symbols AD9513BCPZ-REEL7 to AD9516-2BCPZ]